# EAGLE library part LT3539 (library linear-technology)
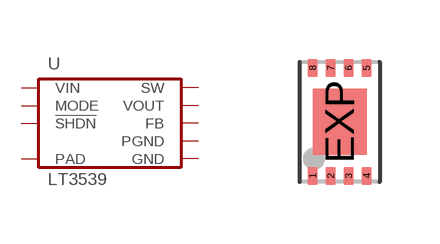
[diagram p28: symbol with the pads of DFN8-2X3; footprint DFN8-2X3]

Designator prefix -

## LT3539  [DFN8-2X3]
1  SW
2  PGND
3  GND
4  VIN
5  !SHDN
6  FB
7  MODE
8  VOUT
EXP  PAD

## Footprint DFN8-2X3 (pad centres in mm)
smd 0.25 x 0.45: 1 -0.675,-1.35; 2 -0.225,-1.35; 3 0.225,-1.35; 4 0.675,-1.35; 5 0.675,1.35; 6 0.225,1.35; 7 -0.225,1.35; 8 -0.675,1.35
smd 1.35 x 1.65: EXP 0,0